# Altium footprint library 691321100003.PcbLib: 1 footprints
Each footprint in its own frame and in the unit in brackets; x right, y up, seen from the top. Pads: shape width x height; smd on the part's side, far side on the other; paste and mask are expansions set on the pad; w line width, h text height; cw(c..) or ccw(c..) is an arc to the next point about the centre after c.
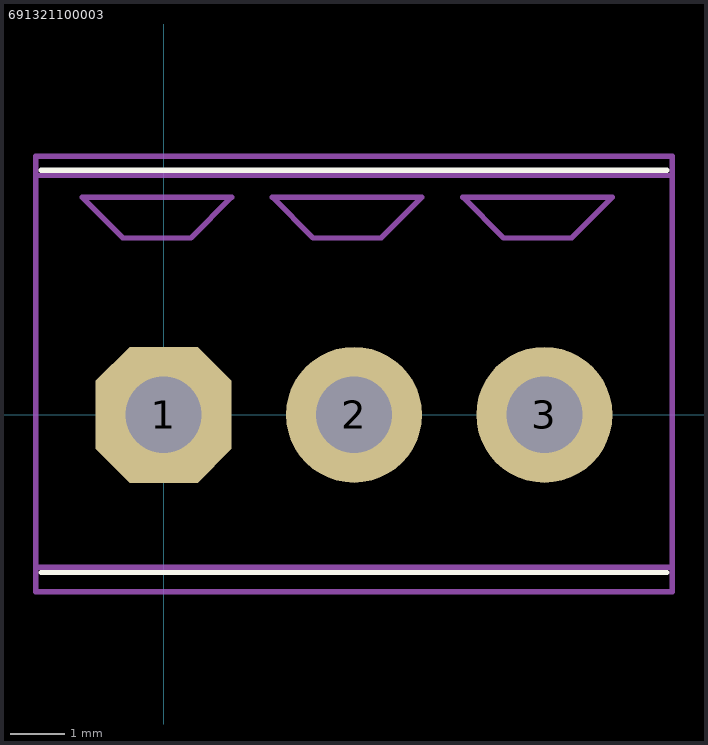
[diagram p0: the footprint, top view; thin cyan lines are the x and y axes]

## 691321100003 [mm]
pads (3):
  oct 2.5x2.5 hole 1.4 mask+0.05: 1(0,0)
  round 2.5 hole 1.4 mask+0.05: 2(3.5,0) 3(7,0)
Top Overlay:
  lines w0.1: -2.25,-2.9 9.25,-2.9 ; -2.25,4.5 9.25,4.5
Top Assembly:
  lines w0.1: -2.35,-2.8 9.35,-2.8 9.35,4.4 -2.35,4.4 -2.35,-2.8 ; -1.5,4 1.25,4 0.5,3.25 -0.75,3.25 -1.5,4 ; 2,4 4.75,4 4,3.25 2.75,3.25 2,4 ; 5.5,4 8.25,4 7.5,3.25 6.25,3.25 5.5,4
Top Courtyard:
  lines w0.1: -2.35,-3.25 9.35,-3.25 9.35,4.75 -2.35,4.75 -2.35,-3.25
3D body "691321100003 (rev1).stp": height 9.2, standoff -3.5, extent -2.3,-2.8 9.3,4.4